# Altium integrated library Microchip I2C Serial EEPROM.IntLib: 1069 symbols (part 15 of 28)
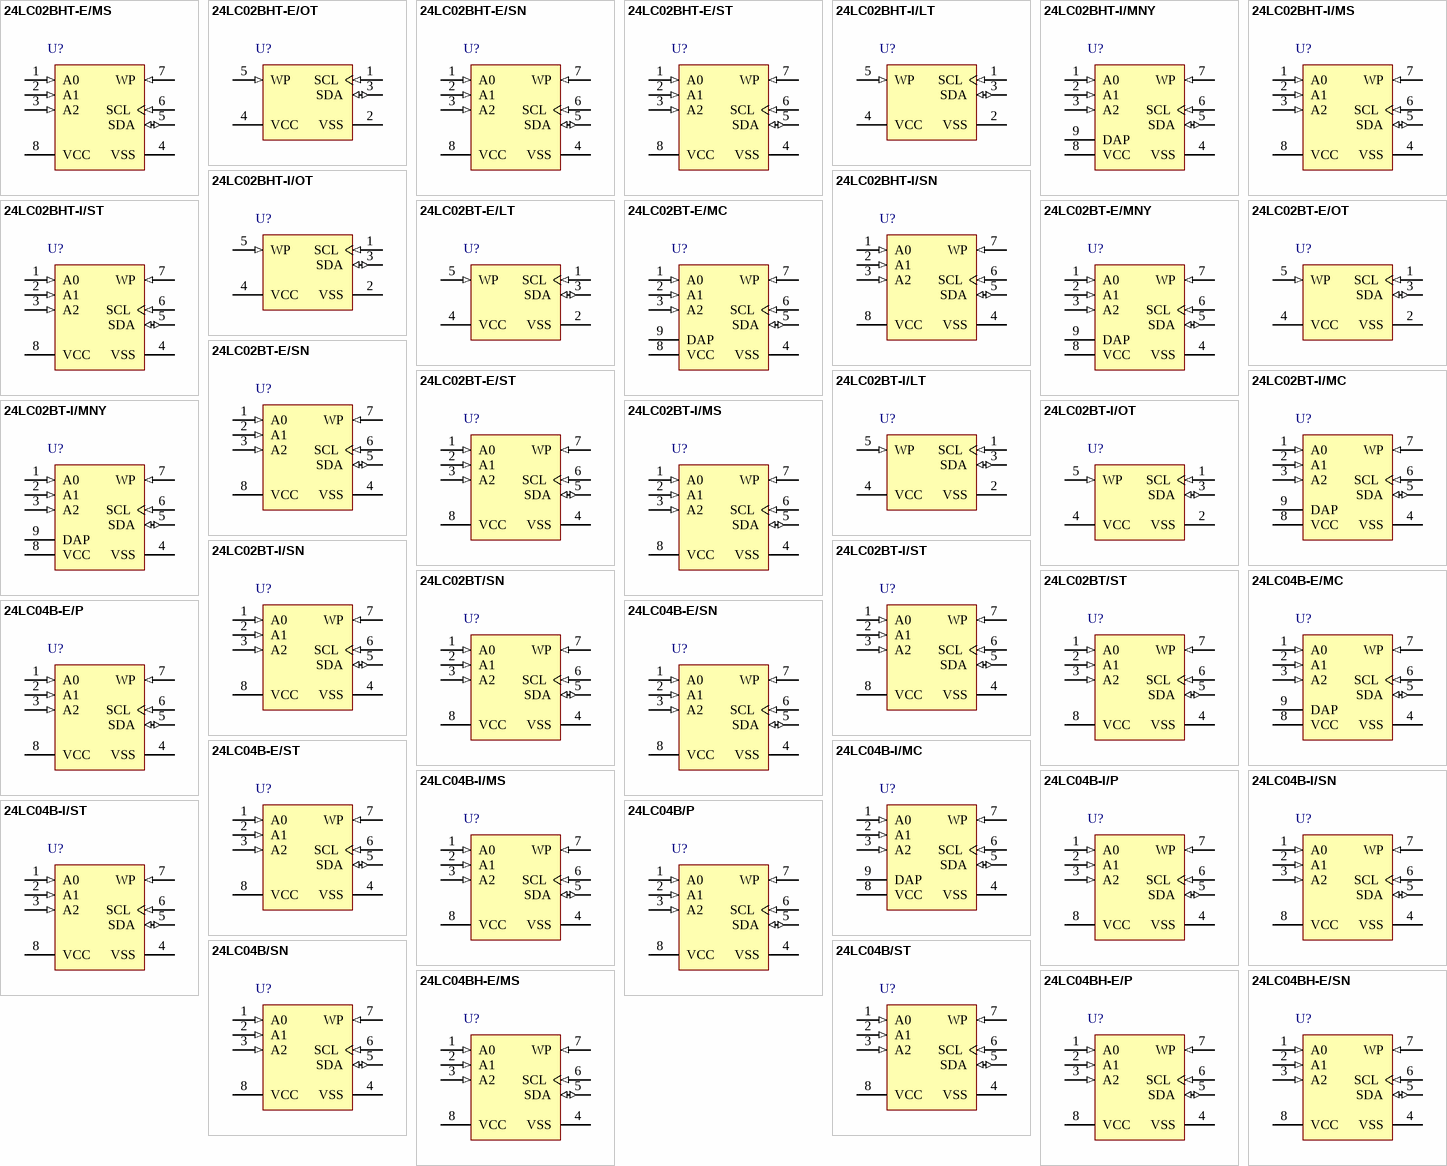
[diagram p40: symbols 24LC02BHT-E/MS to 24LC04BH-E/SN]

## 24LC02BT-I/MC
designator U?
2Kbit, 400kHz, 2.5V, I2C Serial EEPROM, 8-Pin DFN, Industrial Temperature, Tape and Reel; Manufacturer: Microchip; PartNumber: 24LC02BT-I/MC; DatasheetVersion: revJ, Feb-2009; PackageVersion: revBB, Aug-2009; PackageReference: DFN-MC8; PackageDescription: 8-Lead Plastic Dual Flat, No Lead Package (MC) - 2x3x0.9mm Body [DFN]; Supplier 1: Digi-Key; Supplier Part Number 1: 24LC02BT-I/MCTR-ND; Supplier 2: Digi-Key; Supplier Part Number 2: 24LC02BT-I/MCCT-ND; Supplier 3: Digi-Key; Supplier Part Number 3: 24LC02BT-I/MCDKR-ND; Supplier 4: Farnell; Supplier Part Number 4: 1815997; Supplier 5: Newark; Supplier Part Number 5: 72J3393; Supplier 6: Mouser; Supplier Part Number 6: 579-24LC02BT-I/MC; Mounting Technology: Surface Mount; ComponentLink1Description: Manufacturer URL; ComponentLink1URL: http://www.microchip.com/; ComponentLink2Description: Datasheet; ComponentLink2URL: http://ww1.microchip.com/downloads/en/DeviceDoc/21709J.pdf; ComponentLink3Description: Package Specification; ComponentLink3URL: http://www.microchip.com/stellent/groups/techpub_sg/documents/packagingspec/en012702.pdf
footprint DFN-MC8 (SON, 8-Leads, Body 2x3mm, Pitch 0.5mm, Microchip Recommended)
pins: 1 A0 (in), 2 A1 (in), 3 A2 (in), 4 VSS (power), 5 SDA (io), 6 SCL (in), 7 WP (in), 8 VCC (power), 9 DAP (power)

## 24LC02BT-I/MNY
designator U?
2Kbit, 400kHz, 2.5V, I2C Serial EEPROM, 8-Pin TDFN (NiPdAu finish), Industrial Temperature, Tape and Reel; Manufacturer: Microchip; PartNumber: 24LC02BT-I/MNY; DatasheetVersion: revJ, Feb-2009; PackageVersion: revBB, Aug-2009; PackageReference: TDFN-MN8; PackageDescription: 8-Lead Plastic Dual Flat, No Lead Package (MN) - 2x3x0.75mm Body [TDFN]; Supplier 1: Digi-Key; Supplier Part Number 1: 24LC02BT-I/MNYTR-ND; Supplier 2: Digi-Key; Supplier Part Number 2: 24LC02BT-I/MNYCT-ND; Supplier 3: Digi-Key; Supplier Part Number 3: 24LC02BT-I/MNYDKR-ND; Supplier 4: Mouser; Supplier Part Number 4: 579-24LC02BT-I/MNY; Mounting Technology: Surface Mount; ComponentLink1Description: Manufacturer URL; ComponentLink1URL: http://www.microchip.com/; ComponentLink2Description: Datasheet; ComponentLink2URL: http://ww1.microchip.com/downloads/en/DeviceDoc/21709J.pdf; ComponentLink3Description: Package Specification; ComponentLink3URL: http://www.microchip.com/stellent/groups/techpub_sg/documents/packagingspec/en012702.pdf
footprint TDFN-MN8 (SON, 8-Leads, Body 2x3mm, Pitch 0.5mm, Microchip Recommended)
pins: 1 A0 (in), 2 A1 (in), 3 A2 (in), 4 VSS (power), 5 SDA (io), 6 SCL (in), 7 WP (in), 8 VCC (power), 9 DAP (power)

## 24LC02BT-I/MS
designator U?
2Kbit, 400kHz, 2.5V, I2C Serial EEPROM, 8-Pin MSOP, Industrial Temperature, Tape and Reel; Manufacturer: Microchip; PartNumber: 24LC02BT-I/MS; DatasheetVersion: revJ, Feb-2009; PackageVersion: revBB, Aug-2009; PackageReference: MSOP-MS8; PackageDescription: 8-Lead Plastic Micro Small Outline Package (MS) [MSOP]; Supplier 1: Digi-Key; Supplier Part Number 1: 24LC02BT-I/MS-ND; Supplier 2: Mouser; Supplier Part Number 2: 579-24LC02BT-I/MS; Mounting Technology: Surface Mount; ComponentLink1Description: Manufacturer URL; ComponentLink1URL: http://www.microchip.com/; ComponentLink2Description: Datasheet; ComponentLink2URL: http://ww1.microchip.com/downloads/en/DeviceDoc/21709J.pdf; ComponentLink3Description: Package Specification; ComponentLink3URL: http://www.microchip.com/stellent/groups/techpub_sg/documents/packagingspec/en012702.pdf
footprint MSOP-MS8_N (TSOP, 8-Leads, Body 3x3mm, Pitch 0.65mm, IPC Medium Density)
footprint MSOP-MS8_L (TSOP, 8-Leads, Body 3x3mm, Pitch 0.65mm, IPC High Density)
footprint MSOP-MS8_M (TSOP, 8-Leads, Body 3x3mm, Pitch 0.65mm, IPC Low Density)
pins: 1 A0 (in), 2 A1 (in), 3 A2 (in), 4 VSS (power), 5 SDA (io), 6 SCL (in), 7 WP (in), 8 VCC (power)

## 24LC02BT-I/OT
designator U?
2Kbit, 400kHz, 2.5V, I2C Serial EEPROM, 5-Pin SOT-23, Industrial Temperature, Tape and Reel; Manufacturer: Microchip; PartNumber: 24LC02BT-I/OT; DatasheetVersion: revJ, Feb-2009; PackageVersion: revBB, Aug-2009; PackageReference: SOT-23-OT5; PackageDescription: 5-Lead Plastic Small Outline Transistor (OT) [SOT-23]; Supplier 1: Digi-Key; Supplier Part Number 1: 24LC02BT-I/OTTR-ND; Supplier 2: Digi-Key; Supplier Part Number 2: 24LC02BT-I/OTCT-ND; Supplier 3: Digi-Key; Supplier Part Number 3: 24LC02BT-I/OTDKR-ND; Supplier 4: Farnell; Supplier Part Number 4: 9757910RL; Supplier 5: Farnell; Supplier Part Number 5: 9757910; Supplier 6: Newark; Supplier Part Number 6: 89C9800; Supplier 7: Mouser; Supplier Part Number 7: 579-24LC02BT-I/OT; Mounting Technology: Surface Mount; Code_IPC: SOT23-5; ComponentLink1Description: Manufacturer URL; ComponentLink1URL: http://www.microchip.com/; ComponentLink2Description: Datasheet; ComponentLink2URL: http://ww1.microchip.com/downloads/en/DeviceDoc/21709J.pdf; ComponentLink3Description: Package Specification; ComponentLink3URL: http://www.microchip.com/stellent/groups/techpub_sg/documents/packagingspec/en012702.pdf
footprint SOT-23-OT5_N (SOT23, 5-Leads, Body 2.9x1.6mm, Pitch 0.95mm, Lead Span 2.7mm, IPC Medium Density)
footprint SOT-23-OT5_L (SOT23, 5-Leads, Body 2.9x1.6mm, Pitch 0.95mm, Lead Span 2.7mm, IPC High Density)
footprint SOT-23-OT5_M (SOT23, 5-Leads, Body 2.9x1.6mm, Pitch 0.95mm, Lead Span 2.7mm, IPC Low Density)
pins: 1 SCL (in), 2 VSS (power), 3 SDA (io), 4 VCC (power), 5 WP (in)

## 24LC02BT-I/SN
designator U?
2Kbit, 400kHz, 2.5V, I2C Serial EEPROM, 8-Pin SOIC 150mil, Industrial Temperature, Tape and Reel; Manufacturer: Microchip; PartNumber: 24LC02BT-I/SN; DatasheetVersion: revJ, Feb-2009; PackageVersion: revBB, Aug-2009; PackageReference: SOIC-SN8; PackageDescription: 8-Lead Plastic Small Outline (SN) - Narrow, 3.90mm Body [SOIC]; Supplier 1: Digi-Key; Supplier Part Number 1: 24LC02BT-I/SN-ND; Supplier 2: Newark; Supplier Part Number 2: 75M3687; Supplier 3: Newark; Supplier Part Number 3: 92C7084; Supplier 4: Mouser; Supplier Part Number 4: 579-24LC02BT-I/SN; Mounting Technology: Surface Mount; Code_JEDEC: MS-012; Code_IPC: SOIC127P600-8; ComponentLink1Description: Manufacturer URL; ComponentLink1URL: http://www.microchip.com/; ComponentLink2Description: Datasheet; ComponentLink2URL: http://ww1.microchip.com/downloads/en/DeviceDoc/21709J.pdf; ComponentLink3Description: Package Specification; ComponentLink3URL: http://www.microchip.com/stellent/groups/techpub_sg/documents/packagingspec/en012702.pdf
footprint SOIC-SN8_N (SOIC, 8-Leads, Body 4.9x3.8mm, Pitch 1.27mm, IPC Medium Density)
footprint SOIC-SN8_L (SOIC, 8-Leads, Body 4.9x3.8mm, Pitch 1.27mm, IPC High Density)
footprint SOIC-SN8_M (SOIC, 8-Leads, Body 4.9x3.8mm, Pitch 1.27mm, IPC Low Density)
pins: 1 A0 (in), 2 A1 (in), 3 A2 (in), 4 VSS (power), 5 SDA (io), 6 SCL (in), 7 WP (in), 8 VCC (power)

## 24LC02BT-I/ST
designator U?
2Kbit, 400kHz, 2.5V, I2C Serial EEPROM, 8-Pin TSSOP, Industrial Temperature, Tape and Reel; Manufacturer: Microchip; PartNumber: 24LC02BT-I/ST; DatasheetVersion: revJ, Feb-2009; PackageVersion: revBB, Aug-2009; PackageReference: TSSOP-ST8; PackageDescription: 8-Lead Plastic Thin Shrink Small Outline (ST) - 4.4mm Body [TSSOP]; Supplier 1: Digi-Key; Supplier Part Number 1: 24LC02BT-I/ST-ND; Supplier 2: Mouser; Supplier Part Number 2: 579-24LC02BT-I/ST; Mounting Technology: Surface Mount; Code_JEDEC: MO-153; ComponentLink1Description: Manufacturer URL; ComponentLink1URL: http://www.microchip.com/; ComponentLink2Description: Datasheet; ComponentLink2URL: http://ww1.microchip.com/downloads/en/DeviceDoc/21709J.pdf; ComponentLink3Description: Package Specification; ComponentLink3URL: http://www.microchip.com/stellent/groups/techpub_sg/documents/packagingspec/en012702.pdf
footprint TSSOP-ST8_N (TSOP, 8-Leads, Body 3x4.4mm, Pitch 0.65mm, IPC Medium Density)
footprint TSSOP-ST8_L (TSOP, 8-Leads, Body 3x4.4mm, Pitch 0.65mm, IPC High Density)
footprint TSSOP-ST8_M (TSOP, 8-Leads, Body 3x4.4mm, Pitch 0.65mm, IPC Low Density)
pins: 1 A0 (in), 2 A1 (in), 3 A2 (in), 4 VSS (power), 5 SDA (io), 6 SCL (in), 7 WP (in), 8 VCC (power)

## 24LC02BT/SN
designator U?
2Kbit, 400kHz, 2.5V, I2C Serial EEPROM, 8-Pin SOIC 150mil, Commercial Temperature, Tape and Reel; Manufacturer: Microchip; PartNumber: 24LC02BT/SN; DatasheetVersion: revJ, Feb-2009; PackageVersion: revBB, Aug-2009; PackageReference: SOIC-SN8; PackageDescription: 8-Lead Plastic Small Outline (SN) - Narrow, 3.90mm Body [SOIC]; Supplier 1: Digi-Key; Supplier Part Number 1: 24LC02BT/SN-ND; Supplier 2: Newark; Supplier Part Number 2: 12C1999; Supplier 3: Mouser; Supplier Part Number 3: 579-24LC02BT/SN; Mounting Technology: Surface Mount; Code_JEDEC: MS-012; Code_IPC: SOIC127P600-8; ComponentLink1Description: Manufacturer URL; ComponentLink1URL: http://www.microchip.com/; ComponentLink2Description: Datasheet; ComponentLink2URL: http://ww1.microchip.com/downloads/en/DeviceDoc/21709J.pdf; ComponentLink3Description: Package Specification; ComponentLink3URL: http://www.microchip.com/stellent/groups/techpub_sg/documents/packagingspec/en012702.pdf
footprint SOIC-SN8_N (SOIC, 8-Leads, Body 4.9x3.8mm, Pitch 1.27mm, IPC Medium Density)
footprint SOIC-SN8_L (SOIC, 8-Leads, Body 4.9x3.8mm, Pitch 1.27mm, IPC High Density)
footprint SOIC-SN8_M (SOIC, 8-Leads, Body 4.9x3.8mm, Pitch 1.27mm, IPC Low Density)
pins: 1 A0 (in), 2 A1 (in), 3 A2 (in), 4 VSS (power), 5 SDA (io), 6 SCL (in), 7 WP (in), 8 VCC (power)

## 24LC02BT/ST
designator U?
2Kbit, 400kHz, 2.5V, I2C Serial EEPROM, 8-Pin TSSOP, Commercial Temperature, Tape and Reel; Manufacturer: Microchip; PartNumber: 24LC02BT/ST; DatasheetVersion: revJ, Feb-2009; PackageVersion: revBB, Aug-2009; PackageReference: TSSOP-ST8; PackageDescription: 8-Lead Plastic Thin Shrink Small Outline (ST) - 4.4mm Body [TSSOP]; Supplier 1: Digi-Key; Supplier Part Number 1: 24LC02BT/ST-ND; Supplier 2: Mouser; Supplier Part Number 2: 579-24LC02BT/ST; Mounting Technology: Surface Mount; Code_JEDEC: MO-153; ComponentLink1Description: Manufacturer URL; ComponentLink1URL: http://www.microchip.com/; ComponentLink2Description: Datasheet; ComponentLink2URL: http://ww1.microchip.com/downloads/en/DeviceDoc/21709J.pdf; ComponentLink3Description: Package Specification; ComponentLink3URL: http://www.microchip.com/stellent/groups/techpub_sg/documents/packagingspec/en012702.pdf
footprint TSSOP-ST8_N (TSOP, 8-Leads, Body 3x4.4mm, Pitch 0.65mm, IPC Medium Density)
footprint TSSOP-ST8_L (TSOP, 8-Leads, Body 3x4.4mm, Pitch 0.65mm, IPC High Density)
footprint TSSOP-ST8_M (TSOP, 8-Leads, Body 3x4.4mm, Pitch 0.65mm, IPC Low Density)
pins: 1 A0 (in), 2 A1 (in), 3 A2 (in), 4 VSS (power), 5 SDA (io), 6 SCL (in), 7 WP (in), 8 VCC (power)

## 24LC04B-E/MC
designator U?
4Kbit, 400kHz, 2.5V, I2C Serial EEPROM, 8-Pin DFN, Extended Temperature; Manufacturer: Microchip; PartNumber: 24LC04B-E/MC; DatasheetVersion: revK, Mar-2009; PackageVersion: revBB, Aug-2009; PackageReference: DFN-MC8; PackageDescription: 8-Lead Plastic Dual Flat, No Lead Package (MC) - 2x3x0.9mm Body [DFN]; Mounting Technology: Surface Mount; ComponentLink1Description: Manufacturer URL; ComponentLink1URL: http://www.microchip.com/; ComponentLink2Description: Datasheet; ComponentLink2URL: http://ww1.microchip.com/downloads/en/DeviceDoc/21708K.pdf; ComponentLink3Description: Package Specification; ComponentLink3URL: http://www.microchip.com/stellent/groups/techpub_sg/documents/packagingspec/en012702.pdf
footprint DFN-MC8 (SON, 8-Leads, Body 2x3mm, Pitch 0.5mm, Microchip Recommended)
pins: 1 A0 (in), 2 A1 (in), 3 A2 (in), 4 VSS (power), 5 SDA (io), 6 SCL (in), 7 WP (in), 8 VCC (power), 9 DAP (power)

## 24LC04B-E/P
designator U?
4Kbit, 400kHz, 2.5V, I2C Serial EEPROM, 8-Pin PDIP, Extended Temperature; Manufacturer: Microchip; PartNumber: 24LC04B-E/P; DatasheetVersion: revK, Mar-2009; PackageVersion: revBB, Aug-2009; PackageReference: PDIP300-P8; PackageDescription: 8-Lead Plastic Dual In-Line (P) - 300 mil Body [PDIP]; Supplier 1: Digi-Key; Supplier Part Number 1: 24LC04B-E/P-ND; Supplier 2: Mouser; Supplier Part Number 2: 579-24LC04B-E/P; Mounting Technology: Through Hole; Code_JEDEC: MS-001; ComponentLink1Description: Manufacturer URL; ComponentLink1URL: http://www.microchip.com/; ComponentLink2Description: Datasheet; ComponentLink2URL: http://ww1.microchip.com/downloads/en/DeviceDoc/21708K.pdf; ComponentLink3Description: Package Specification; ComponentLink3URL: http://www.microchip.com/stellent/groups/techpub_sg/documents/packagingspec/en012702.pdf
footprint PDIP300-P8 (DIP, 8-Leads, Row Spacing 7.62mm, Pitch 2.54mm, Body 9.5x6.6mm)
pins: 1 A0 (in), 2 A1 (in), 3 A2 (in), 4 VSS (power), 5 SDA (io), 6 SCL (in), 7 WP (in), 8 VCC (power)

## 24LC04B-E/SN
designator U?
4Kbit, 400kHz, 2.5V, I2C Serial EEPROM, 8-Pin SOIC 150mil, Extended Temperature; Manufacturer: Microchip; PartNumber: 24LC04B-E/SN; DatasheetVersion: revK, Mar-2009; PackageVersion: revBB, Aug-2009; PackageReference: SOIC-SN8; PackageDescription: 8-Lead Plastic Small Outline (SN) - Narrow, 3.90mm Body [SOIC]; Supplier 1: Digi-Key; Supplier Part Number 1: 24LC04B-E/SN-ND; Supplier 2: Mouser; Supplier Part Number 2: 579-24LC04B-E/SN; Mounting Technology: Surface Mount; Code_JEDEC: MS-012; Code_IPC: SOIC127P600-8; ComponentLink1Description: Manufacturer URL; ComponentLink1URL: http://www.microchip.com/; ComponentLink2Description: Datasheet; ComponentLink2URL: http://ww1.microchip.com/downloads/en/DeviceDoc/21708K.pdf; ComponentLink3Description: Package Specification; ComponentLink3URL: http://www.microchip.com/stellent/groups/techpub_sg/documents/packagingspec/en012702.pdf
footprint SOIC-SN8_N (SOIC, 8-Leads, Body 4.9x3.8mm, Pitch 1.27mm, IPC Medium Density)
footprint SOIC-SN8_L (SOIC, 8-Leads, Body 4.9x3.8mm, Pitch 1.27mm, IPC High Density)
footprint SOIC-SN8_M (SOIC, 8-Leads, Body 4.9x3.8mm, Pitch 1.27mm, IPC Low Density)
pins: 1 A0 (in), 2 A1 (in), 3 A2 (in), 4 VSS (power), 5 SDA (io), 6 SCL (in), 7 WP (in), 8 VCC (power)

## 24LC04B-E/ST
designator U?
4Kbit, 400kHz, 2.5V, I2C Serial EEPROM, 8-Pin TSSOP, Extended Temperature; Manufacturer: Microchip; PartNumber: 24LC04B-E/ST; DatasheetVersion: revK, Mar-2009; PackageVersion: revBB, Aug-2009; PackageReference: TSSOP-ST8; PackageDescription: 8-Lead Plastic Thin Shrink Small Outline (ST) - 4.4mm Body [TSSOP]; Supplier 1: Digi-Key; Supplier Part Number 1: 24LC04B-E/ST-ND; Supplier 2: Mouser; Supplier Part Number 2: 579-24LC04B-E/ST; Mounting Technology: Surface Mount; Code_JEDEC: MO-153; ComponentLink1Description: Manufacturer URL; ComponentLink1URL: http://www.microchip.com/; ComponentLink2Description: Datasheet; ComponentLink2URL: http://ww1.microchip.com/downloads/en/DeviceDoc/21708K.pdf; ComponentLink3Description: Package Specification; ComponentLink3URL: http://www.microchip.com/stellent/groups/techpub_sg/documents/packagingspec/en012702.pdf
footprint TSSOP-ST8_N (TSOP, 8-Leads, Body 3x4.4mm, Pitch 0.65mm, IPC Medium Density)
footprint TSSOP-ST8_L (TSOP, 8-Leads, Body 3x4.4mm, Pitch 0.65mm, IPC High Density)
footprint TSSOP-ST8_M (TSOP, 8-Leads, Body 3x4.4mm, Pitch 0.65mm, IPC Low Density)
pins: 1 A0 (in), 2 A1 (in), 3 A2 (in), 4 VSS (power), 5 SDA (io), 6 SCL (in), 7 WP (in), 8 VCC (power)

## 24LC04B-I/MC
designator U?
4Kbit, 400kHz, 2.5V, I2C Serial EEPROM, 8-Pin DFN, Industrial Temperature; Manufacturer: Microchip; PartNumber: 24LC04B-I/MC; DatasheetVersion: revK, Mar-2009; PackageVersion: revBB, Aug-2009; PackageReference: DFN-MC8; PackageDescription: 8-Lead Plastic Dual Flat, No Lead Package (MC) - 2x3x0.9mm Body [DFN]; Supplier 1: Digi-Key; Supplier Part Number 1: 24LC04B-I/MC-ND; Supplier 2: Mouser; Supplier Part Number 2: 579-24LC04B-I/MC; Mounting Technology: Surface Mount; ComponentLink1Description: Manufacturer URL; ComponentLink1URL: http://www.microchip.com/; ComponentLink2Description: Datasheet; ComponentLink2URL: http://ww1.microchip.com/downloads/en/DeviceDoc/21708K.pdf; ComponentLink3Description: Package Specification; ComponentLink3URL: http://www.microchip.com/stellent/groups/techpub_sg/documents/packagingspec/en012702.pdf
footprint DFN-MC8 (SON, 8-Leads, Body 2x3mm, Pitch 0.5mm, Microchip Recommended)
pins: 1 A0 (in), 2 A1 (in), 3 A2 (in), 4 VSS (power), 5 SDA (io), 6 SCL (in), 7 WP (in), 8 VCC (power), 9 DAP (power)

## 24LC04B-I/MS
designator U?
4Kbit, 400kHz, 2.5V, I2C Serial EEPROM, 8-Pin MSOP, Industrial Temperature; Manufacturer: Microchip; PartNumber: 24LC04B-I/MS; DatasheetVersion: revK, Mar-2009; PackageVersion: revBB, Aug-2009; PackageReference: MSOP-MS8; PackageDescription: 8-Lead Plastic Micro Small Outline Package (MS) [MSOP]; Supplier 1: Digi-Key; Supplier Part Number 1: 24LC04B-I/MS-ND; Supplier 2: Farnell; Supplier Part Number 2: 1331320; Supplier 3: Newark; Supplier Part Number 3: 96K4070; Supplier 4: Mouser; Supplier Part Number 4: 579-24LC04B-I/MS; Mounting Technology: Surface Mount; ComponentLink1Description: Manufacturer URL; ComponentLink1URL: http://www.microchip.com/; ComponentLink2Description: Datasheet; ComponentLink2URL: http://ww1.microchip.com/downloads/en/DeviceDoc/21708K.pdf; ComponentLink3Description: Package Specification; ComponentLink3URL: http://www.microchip.com/stellent/groups/techpub_sg/documents/packagingspec/en012702.pdf
footprint MSOP-MS8_N (TSOP, 8-Leads, Body 3x3mm, Pitch 0.65mm, IPC Medium Density)
footprint MSOP-MS8_L (TSOP, 8-Leads, Body 3x3mm, Pitch 0.65mm, IPC High Density)
footprint MSOP-MS8_M (TSOP, 8-Leads, Body 3x3mm, Pitch 0.65mm, IPC Low Density)
pins: 1 A0 (in), 2 A1 (in), 3 A2 (in), 4 VSS (power), 5 SDA (io), 6 SCL (in), 7 WP (in), 8 VCC (power)

## 24LC04B-I/P
designator U?
4Kbit, 400kHz, 2.5V, I2C Serial EEPROM, 8-Pin PDIP, Industrial Temperature; Manufacturer: Microchip; PartNumber: 24LC04B-I/P; DatasheetVersion: revK, Mar-2009; PackageVersion: revBB, Aug-2009; PackageReference: PDIP300-P8; PackageDescription: 8-Lead Plastic Dual In-Line (P) - 300 mil Body [PDIP]; Supplier 1: Digi-Key; Supplier Part Number 1: 24LC04B-I/P-ND; Supplier 2: Farnell; Supplier Part Number 2: 1196811; Supplier 3: Newark; Supplier Part Number 3: 62K0576; Supplier 4: Mouser; Supplier Part Number 4: 579-24LC04B-I/P; Mounting Technology: Through Hole; Code_JEDEC: MS-001; ComponentLink1Description: Manufacturer URL; ComponentLink1URL: http://www.microchip.com/; ComponentLink2Description: Datasheet; ComponentLink2URL: http://ww1.microchip.com/downloads/en/DeviceDoc/21708K.pdf; ComponentLink3Description: Package Specification; ComponentLink3URL: http://www.microchip.com/stellent/groups/techpub_sg/documents/packagingspec/en012702.pdf
footprint PDIP300-P8 (DIP, 8-Leads, Row Spacing 7.62mm, Pitch 2.54mm, Body 9.5x6.6mm)
pins: 1 A0 (in), 2 A1 (in), 3 A2 (in), 4 VSS (power), 5 SDA (io), 6 SCL (in), 7 WP (in), 8 VCC (power)

## 24LC04B-I/SN
designator U?
4Kbit, 400kHz, 2.5V, I2C Serial EEPROM, 8-Pin SOIC 150mil, Industrial Temperature; Manufacturer: Microchip; PartNumber: 24LC04B-I/SN; DatasheetVersion: revK, Mar-2009; PackageVersion: revBB, Aug-2009; PackageReference: SOIC-SN8; PackageDescription: 8-Lead Plastic Small Outline (SN) - Narrow, 3.90mm Body [SOIC]; Supplier 1: Digi-Key; Supplier Part Number 1: 24LC04B-I/SN-ND; Supplier 2: Newark; Supplier Part Number 2: 65K1125; Supplier 3: Mouser; Supplier Part Number 3: 579-24LC04B-I/SN; Mounting Technology: Surface Mount; Code_JEDEC: MS-012; Code_IPC: SOIC127P600-8; ComponentLink1Description: Manufacturer URL; ComponentLink1URL: http://www.microchip.com/; ComponentLink2Description: Datasheet; ComponentLink2URL: http://ww1.microchip.com/downloads/en/DeviceDoc/21708K.pdf; ComponentLink3Description: Package Specification; ComponentLink3URL: http://www.microchip.com/stellent/groups/techpub_sg/documents/packagingspec/en012702.pdf
footprint SOIC-SN8_N (SOIC, 8-Leads, Body 4.9x3.8mm, Pitch 1.27mm, IPC Medium Density)
footprint SOIC-SN8_L (SOIC, 8-Leads, Body 4.9x3.8mm, Pitch 1.27mm, IPC High Density)
footprint SOIC-SN8_M (SOIC, 8-Leads, Body 4.9x3.8mm, Pitch 1.27mm, IPC Low Density)
pins: 1 A0 (in), 2 A1 (in), 3 A2 (in), 4 VSS (power), 5 SDA (io), 6 SCL (in), 7 WP (in), 8 VCC (power)

## 24LC04B-I/ST
designator U?
4Kbit, 400kHz, 2.5V, I2C Serial EEPROM, 8-Pin TSSOP, Industrial Temperature; Manufacturer: Microchip; PartNumber: 24LC04B-I/ST; DatasheetVersion: revK, Mar-2009; PackageVersion: revBB, Aug-2009; PackageReference: TSSOP-ST8; PackageDescription: 8-Lead Plastic Thin Shrink Small Outline (ST) - 4.4mm Body [TSSOP]; Supplier 1: Digi-Key; Supplier Part Number 1: 24LC04B-I/ST-ND; Supplier 2: Newark; Supplier Part Number 2: 65K1126; Supplier 3: Mouser; Supplier Part Number 3: 579-24LC04B-I/ST; Mounting Technology: Surface Mount; Code_JEDEC: MO-153; ComponentLink1Description: Manufacturer URL; ComponentLink1URL: http://www.microchip.com/; ComponentLink2Description: Datasheet; ComponentLink2URL: http://ww1.microchip.com/downloads/en/DeviceDoc/21708K.pdf; ComponentLink3Description: Package Specification; ComponentLink3URL: http://www.microchip.com/stellent/groups/techpub_sg/documents/packagingspec/en012702.pdf
footprint TSSOP-ST8_N (TSOP, 8-Leads, Body 3x4.4mm, Pitch 0.65mm, IPC Medium Density)
footprint TSSOP-ST8_L (TSOP, 8-Leads, Body 3x4.4mm, Pitch 0.65mm, IPC High Density)
footprint TSSOP-ST8_M (TSOP, 8-Leads, Body 3x4.4mm, Pitch 0.65mm, IPC Low Density)
pins: 1 A0 (in), 2 A1 (in), 3 A2 (in), 4 VSS (power), 5 SDA (io), 6 SCL (in), 7 WP (in), 8 VCC (power)

## 24LC04B/P
designator U?
4Kbit, 400kHz, 2.5V, I2C Serial EEPROM, 8-Pin PDIP, Commercial Temperature; Manufacturer: Microchip; PartNumber: 24LC04B/P; DatasheetVersion: revK, Mar-2009; PackageVersion: revBB, Aug-2009; PackageReference: PDIP300-P8; PackageDescription: 8-Lead Plastic Dual In-Line (P) - 300 mil Body [PDIP]; Supplier 1: Digi-Key; Supplier Part Number 1: 24LC04B/P-ND; Supplier 2: Farnell; Supplier Part Number 2: 1196848; Supplier 3: Newark; Supplier Part Number 3: 69K7668; Supplier 4: Mouser; Supplier Part Number 4: 579-24LC04BP; Mounting Technology: Through Hole; Code_JEDEC: MS-001; ComponentLink1Description: Manufacturer URL; ComponentLink1URL: http://www.microchip.com/; ComponentLink2Description: Datasheet; ComponentLink2URL: http://ww1.microchip.com/downloads/en/DeviceDoc/21708K.pdf; ComponentLink3Description: Package Specification; ComponentLink3URL: http://www.microchip.com/stellent/groups/techpub_sg/documents/packagingspec/en012702.pdf
footprint PDIP300-P8 (DIP, 8-Leads, Row Spacing 7.62mm, Pitch 2.54mm, Body 9.5x6.6mm)
pins: 1 A0 (in), 2 A1 (in), 3 A2 (in), 4 VSS (power), 5 SDA (io), 6 SCL (in), 7 WP (in), 8 VCC (power)

## 24LC04B/SN
designator U?
4Kbit, 400kHz, 2.5V, I2C Serial EEPROM, 8-Pin SOIC 150mil, Commercial Temperature; Manufacturer: Microchip; PartNumber: 24LC04B/SN; DatasheetVersion: revK, Mar-2009; PackageVersion: revBB, Aug-2009; PackageReference: SOIC-SN8; PackageDescription: 8-Lead Plastic Small Outline (SN) - Narrow, 3.90mm Body [SOIC]; Supplier 1: Digi-Key; Supplier Part Number 1: 24LC04B/SN-ND; Supplier 2: Farnell; Supplier Part Number 2: 1084244; Supplier 3: Newark; Supplier Part Number 3: 96K4071; Supplier 4: Mouser; Supplier Part Number 4: 579-24LC04BSN; Mounting Technology: Surface Mount; Code_JEDEC: MS-012; Code_IPC: SOIC127P600-8; ComponentLink1Description: Manufacturer URL; ComponentLink1URL: http://www.microchip.com/; ComponentLink2Description: Datasheet; ComponentLink2URL: http://ww1.microchip.com/downloads/en/DeviceDoc/21708K.pdf; ComponentLink3Description: Package Specification; ComponentLink3URL: http://www.microchip.com/stellent/groups/techpub_sg/documents/packagingspec/en012702.pdf
footprint SOIC-SN8_N (SOIC, 8-Leads, Body 4.9x3.8mm, Pitch 1.27mm, IPC Medium Density)
footprint SOIC-SN8_L (SOIC, 8-Leads, Body 4.9x3.8mm, Pitch 1.27mm, IPC High Density)
footprint SOIC-SN8_M (SOIC, 8-Leads, Body 4.9x3.8mm, Pitch 1.27mm, IPC Low Density)
pins: 1 A0 (in), 2 A1 (in), 3 A2 (in), 4 VSS (power), 5 SDA (io), 6 SCL (in), 7 WP (in), 8 VCC (power)

## 24LC04B/ST
designator U?
4Kbit, 400kHz, 2.5V, I2C Serial EEPROM, 8-Pin TSSOP, Commercial Temperature; Manufacturer: Microchip; PartNumber: 24LC04B/ST; DatasheetVersion: revK, Mar-2009; PackageVersion: revBB, Aug-2009; PackageReference: TSSOP-ST8; PackageDescription: 8-Lead Plastic Thin Shrink Small Outline (ST) - 4.4mm Body [TSSOP]; Supplier 1: Digi-Key; Supplier Part Number 1: 24LC04B/ST-ND; Supplier 2: Newark; Supplier Part Number 2: 92C7113; Supplier 3: Mouser; Supplier Part Number 3: 579-24LC04B/ST; Mounting Technology: Surface Mount; Code_JEDEC: MO-153; ComponentLink1Description: Manufacturer URL; ComponentLink1URL: http://www.microchip.com/; ComponentLink2Description: Datasheet; ComponentLink2URL: http://ww1.microchip.com/downloads/en/DeviceDoc/21708K.pdf; ComponentLink3Description: Package Specification; ComponentLink3URL: http://www.microchip.com/stellent/groups/techpub_sg/documents/packagingspec/en012702.pdf
footprint TSSOP-ST8_N (TSOP, 8-Leads, Body 3x4.4mm, Pitch 0.65mm, IPC Medium Density)
footprint TSSOP-ST8_L (TSOP, 8-Leads, Body 3x4.4mm, Pitch 0.65mm, IPC High Density)
footprint TSSOP-ST8_M (TSOP, 8-Leads, Body 3x4.4mm, Pitch 0.65mm, IPC Low Density)
pins: 1 A0 (in), 2 A1 (in), 3 A2 (in), 4 VSS (power), 5 SDA (io), 6 SCL (in), 7 WP (in), 8 VCC (power)

## 24LC04BH-E/MS
designator U?
4Kbit, 400kHz, 2.5V, I2C Serial EEPROM, 8-Pin MSOP, Extended Temperature; Manufacturer: Microchip; PartNumber: 24LC04BH-E/MS; DatasheetVersion: revA, Nov-2008; PackageVersion: revBB, Aug-2009; PackageReference: MSOP-MS8; PackageDescription: 8-Lead Plastic Micro Small Outline Package (MS) [MSOP]; Supplier 1: Digi-Key; Supplier Part Number 1: 24LC04BH-E/MS-ND; Supplier 2: Mouser; Supplier Part Number 2: 579-24LC04BH-E/MS; Mounting Technology: Surface Mount; ComponentLink1Description: Manufacturer URL; ComponentLink1URL: http://www.microchip.com/; ComponentLink2Description: Datasheet; ComponentLink2URL: http://ww1.microchip.com/downloads/en/DeviceDoc/22119A.pdf; ComponentLink3Description: Package Specification; ComponentLink3URL: http://www.microchip.com/stellent/groups/techpub_sg/documents/packagingspec/en012702.pdf
footprint MSOP-MS8_N (TSOP, 8-Leads, Body 3x3mm, Pitch 0.65mm, IPC Medium Density)
footprint MSOP-MS8_L (TSOP, 8-Leads, Body 3x3mm, Pitch 0.65mm, IPC High Density)
footprint MSOP-MS8_M (TSOP, 8-Leads, Body 3x3mm, Pitch 0.65mm, IPC Low Density)
pins: 1 A0 (in), 2 A1 (in), 3 A2 (in), 4 VSS (power), 5 SDA (io), 6 SCL (in), 7 WP (in), 8 VCC (power)

## 24LC04BH-E/P
designator U?
4Kbit, 400kHz, 2.5V, I2C Serial EEPROM, 8-Pin PDIP, Extended Temperature; Manufacturer: Microchip; PartNumber: 24LC04BH-E/P; DatasheetVersion: revA, Nov-2008; PackageVersion: revBB, Aug-2009; PackageReference: PDIP300-P8; PackageDescription: 8-Lead Plastic Dual In-Line (P) - 300 mil Body [PDIP]; Supplier 1: Digi-Key; Supplier Part Number 1: 24LC04BH-E/P-ND; Supplier 2: Mouser; Supplier Part Number 2: 579-24LC04BH-E/P; Mounting Technology: Through Hole; Code_JEDEC: MS-001; ComponentLink1Description: Manufacturer URL; ComponentLink1URL: http://www.microchip.com/; ComponentLink2Description: Datasheet; ComponentLink2URL: http://ww1.microchip.com/downloads/en/DeviceDoc/22119A.pdf; ComponentLink3Description: Package Specification; ComponentLink3URL: http://www.microchip.com/stellent/groups/techpub_sg/documents/packagingspec/en012702.pdf
footprint PDIP300-P8 (DIP, 8-Leads, Row Spacing 7.62mm, Pitch 2.54mm, Body 9.5x6.6mm)
pins: 1 A0 (in), 2 A1 (in), 3 A2 (in), 4 VSS (power), 5 SDA (io), 6 SCL (in), 7 WP (in), 8 VCC (power)

## 24LC04BH-E/SN
designator U?
4Kbit, 400kHz, 2.5V, I2C Serial EEPROM, 8-Pin SOIC 150mil, Extended Temperature; Manufacturer: Microchip; PartNumber: 24LC04BH-E/SN; DatasheetVersion: revA, Nov-2008; PackageVersion: revBB, Aug-2009; PackageReference: SOIC-SN8; PackageDescription: 8-Lead Plastic Small Outline (SN) - Narrow, 3.90mm Body [SOIC]; Supplier 1: Digi-Key; Supplier Part Number 1: 24LC04BH-E/SN-ND; Supplier 2: Mouser; Supplier Part Number 2: 579-24LC04BH-E/SN; Mounting Technology: Surface Mount; Code_JEDEC: MS-012; Code_IPC: SOIC127P600-8; ComponentLink1Description: Manufacturer URL; ComponentLink1URL: http://www.microchip.com/; ComponentLink2Description: Datasheet; ComponentLink2URL: http://ww1.microchip.com/downloads/en/DeviceDoc/22119A.pdf; ComponentLink3Description: Package Specification; ComponentLink3URL: http://www.microchip.com/stellent/groups/techpub_sg/documents/packagingspec/en012702.pdf
footprint SOIC-SN8_N (SOIC, 8-Leads, Body 4.9x3.8mm, Pitch 1.27mm, IPC Medium Density)
footprint SOIC-SN8_L (SOIC, 8-Leads, Body 4.9x3.8mm, Pitch 1.27mm, IPC High Density)
footprint SOIC-SN8_M (SOIC, 8-Leads, Body 4.9x3.8mm, Pitch 1.27mm, IPC Low Density)
pins: 1 A0 (in), 2 A1 (in), 3 A2 (in), 4 VSS (power), 5 SDA (io), 6 SCL (in), 7 WP (in), 8 VCC (power)

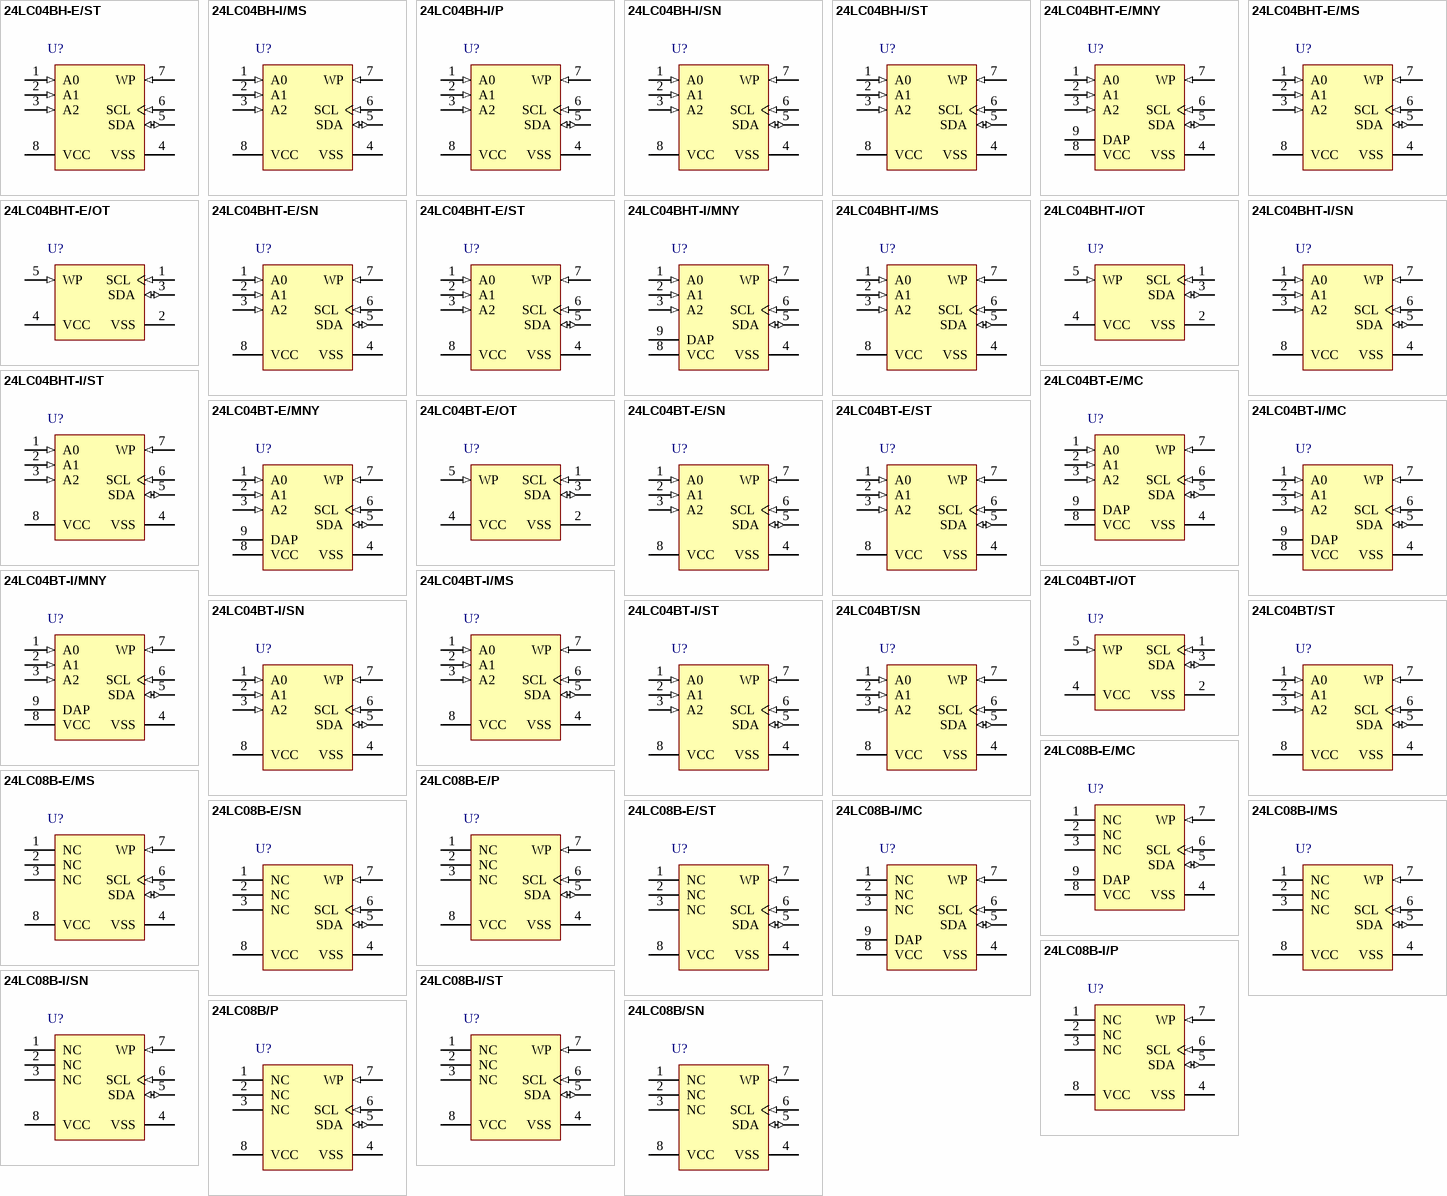
[diagram p14: symbols 24LC04BH-E/ST to 24LC08B/SN]

## 24LC04BH-E/ST
designator U?
4Kbit, 400kHz, 2.5V, I2C Serial EEPROM, 8-Pin TSSOP, Extended Temperature; Manufacturer: Microchip; PartNumber: 24LC04BH-E/ST; DatasheetVersion: revA, Nov-2008; PackageVersion: revBB, Aug-2009; PackageReference: TSSOP-ST8; PackageDescription: 8-Lead Plastic Thin Shrink Small Outline (ST) - 4.4mm Body [TSSOP]; Supplier 1: Digi-Key; Supplier Part Number 1: 24LC04BH-E/ST-ND; Supplier 2: Mouser; Supplier Part Number 2: 579-24LC04BH-E/ST; Mounting Technology: Surface Mount; Code_JEDEC: MO-153; ComponentLink1Description: Manufacturer URL; ComponentLink1URL: http://www.microchip.com/; ComponentLink2Description: Datasheet; ComponentLink2URL: http://ww1.microchip.com/downloads/en/DeviceDoc/22119A.pdf; ComponentLink3Description: Package Specification; ComponentLink3URL: http://www.microchip.com/stellent/groups/techpub_sg/documents/packagingspec/en012702.pdf
footprint TSSOP-ST8_N (TSOP, 8-Leads, Body 3x4.4mm, Pitch 0.65mm, IPC Medium Density)
footprint TSSOP-ST8_L (TSOP, 8-Leads, Body 3x4.4mm, Pitch 0.65mm, IPC High Density)
footprint TSSOP-ST8_M (TSOP, 8-Leads, Body 3x4.4mm, Pitch 0.65mm, IPC Low Density)
pins: 1 A0 (in), 2 A1 (in), 3 A2 (in), 4 VSS (power), 5 SDA (io), 6 SCL (in), 7 WP (in), 8 VCC (power)

## 24LC04BH-I/MS
designator U?
4Kbit, 400kHz, 2.5V, I2C Serial EEPROM, 8-Pin MSOP, Industrial Temperature; Manufacturer: Microchip; PartNumber: 24LC04BH-I/MS; DatasheetVersion: revA, Nov-2008; PackageVersion: revBB, Aug-2009; PackageReference: MSOP-MS8; PackageDescription: 8-Lead Plastic Micro Small Outline Package (MS) [MSOP]; Supplier 1: Digi-Key; Supplier Part Number 1: 24LC04BH-I/MS-ND; Supplier 2: Mouser; Supplier Part Number 2: 579-24LC04BH-I/MS; Mounting Technology: Surface Mount; ComponentLink1Description: Manufacturer URL; ComponentLink1URL: http://www.microchip.com/; ComponentLink2Description: Datasheet; ComponentLink2URL: http://ww1.microchip.com/downloads/en/DeviceDoc/22119A.pdf; ComponentLink3Description: Package Specification; ComponentLink3URL: http://www.microchip.com/stellent/groups/techpub_sg/documents/packagingspec/en012702.pdf
footprint MSOP-MS8_N (TSOP, 8-Leads, Body 3x3mm, Pitch 0.65mm, IPC Medium Density)
footprint MSOP-MS8_L (TSOP, 8-Leads, Body 3x3mm, Pitch 0.65mm, IPC High Density)
footprint MSOP-MS8_M (TSOP, 8-Leads, Body 3x3mm, Pitch 0.65mm, IPC Low Density)
pins: 1 A0 (in), 2 A1 (in), 3 A2 (in), 4 VSS (power), 5 SDA (io), 6 SCL (in), 7 WP (in), 8 VCC (power)

## 24LC04BH-I/P
designator U?
4Kbit, 400kHz, 2.5V, I2C Serial EEPROM, 8-Pin PDIP, Industrial Temperature; Manufacturer: Microchip; PartNumber: 24LC04BH-I/P; DatasheetVersion: revA, Nov-2008; PackageVersion: revBB, Aug-2009; PackageReference: PDIP300-P8; PackageDescription: 8-Lead Plastic Dual In-Line (P) - 300 mil Body [PDIP]; Supplier 1: Digi-Key; Supplier Part Number 1: 24LC04BH-I/P-ND; Supplier 2: Mouser; Supplier Part Number 2: 579-24LC04BH-I/P; Mounting Technology: Through Hole; Code_JEDEC: MS-001; ComponentLink1Description: Manufacturer URL; ComponentLink1URL: http://www.microchip.com/; ComponentLink2Description: Datasheet; ComponentLink2URL: http://ww1.microchip.com/downloads/en/DeviceDoc/22119A.pdf; ComponentLink3Description: Package Specification; ComponentLink3URL: http://www.microchip.com/stellent/groups/techpub_sg/documents/packagingspec/en012702.pdf
footprint PDIP300-P8 (DIP, 8-Leads, Row Spacing 7.62mm, Pitch 2.54mm, Body 9.5x6.6mm)
pins: 1 A0 (in), 2 A1 (in), 3 A2 (in), 4 VSS (power), 5 SDA (io), 6 SCL (in), 7 WP (in), 8 VCC (power)

## 24LC04BH-I/SN
designator U?
4Kbit, 400kHz, 2.5V, I2C Serial EEPROM, 8-Pin SOIC 150mil, Industrial Temperature; Manufacturer: Microchip; PartNumber: 24LC04BH-I/SN; DatasheetVersion: revA, Nov-2008; PackageVersion: revBB, Aug-2009; PackageReference: SOIC-SN8; PackageDescription: 8-Lead Plastic Small Outline (SN) - Narrow, 3.90mm Body [SOIC]; Supplier 1: Digi-Key; Supplier Part Number 1: 24LC04BH-I/SN-ND; Supplier 2: Newark; Supplier Part Number 2: 77M3595; Supplier 3: Mouser; Supplier Part Number 3: 579-24LC04BH-I/SN; Mounting Technology: Surface Mount; Code_JEDEC: MS-012; Code_IPC: SOIC127P600-8; ComponentLink1Description: Manufacturer URL; ComponentLink1URL: http://www.microchip.com/; ComponentLink2Description: Datasheet; ComponentLink2URL: http://ww1.microchip.com/downloads/en/DeviceDoc/22119A.pdf; ComponentLink3Description: Package Specification; ComponentLink3URL: http://www.microchip.com/stellent/groups/techpub_sg/documents/packagingspec/en012702.pdf
footprint SOIC-SN8_N (SOIC, 8-Leads, Body 4.9x3.8mm, Pitch 1.27mm, IPC Medium Density)
footprint SOIC-SN8_L (SOIC, 8-Leads, Body 4.9x3.8mm, Pitch 1.27mm, IPC High Density)
footprint SOIC-SN8_M (SOIC, 8-Leads, Body 4.9x3.8mm, Pitch 1.27mm, IPC Low Density)
pins: 1 A0 (in), 2 A1 (in), 3 A2 (in), 4 VSS (power), 5 SDA (io), 6 SCL (in), 7 WP (in), 8 VCC (power)

## 24LC04BH-I/ST
designator U?
4Kbit, 400kHz, 2.5V, I2C Serial EEPROM, 8-Pin TSSOP, Industrial Temperature; Manufacturer: Microchip; PartNumber: 24LC04BH-I/ST; DatasheetVersion: revA, Nov-2008; PackageVersion: revBB, Aug-2009; PackageReference: TSSOP-ST8; PackageDescription: 8-Lead Plastic Thin Shrink Small Outline (ST) - 4.4mm Body [TSSOP]; Supplier 1: Digi-Key; Supplier Part Number 1: 24LC04BH-I/ST-ND; Supplier 2: Mouser; Supplier Part Number 2: 579-24LC04BH-I/ST; Mounting Technology: Surface Mount; Code_JEDEC: MO-153; ComponentLink1Description: Manufacturer URL; ComponentLink1URL: http://www.microchip.com/; ComponentLink2Description: Datasheet; ComponentLink2URL: http://ww1.microchip.com/downloads/en/DeviceDoc/22119A.pdf; ComponentLink3Description: Package Specification; ComponentLink3URL: http://www.microchip.com/stellent/groups/techpub_sg/documents/packagingspec/en012702.pdf
footprint TSSOP-ST8_N (TSOP, 8-Leads, Body 3x4.4mm, Pitch 0.65mm, IPC Medium Density)
footprint TSSOP-ST8_L (TSOP, 8-Leads, Body 3x4.4mm, Pitch 0.65mm, IPC High Density)
footprint TSSOP-ST8_M (TSOP, 8-Leads, Body 3x4.4mm, Pitch 0.65mm, IPC Low Density)
pins: 1 A0 (in), 2 A1 (in), 3 A2 (in), 4 VSS (power), 5 SDA (io), 6 SCL (in), 7 WP (in), 8 VCC (power)

## 24LC04BHT-E/MNY
designator U?
4Kbit, 400kHz, 2.5V, I2C Serial EEPROM, 8-Pin TDFN (NiPdAu finish), Extended Temperature, Tape and Reel; Manufacturer: Microchip; PartNumber: 24LC04BHT-E/MNY; DatasheetVersion: revA, Nov-2008; PackageVersion: revBB, Aug-2009; PackageReference: TDFN-MN8; PackageDescription: 8-Lead Plastic Dual Flat, No Lead Package (MN) - 2x3x0.75mm Body [TDFN]; Supplier 1: Digi-Key; Supplier Part Number 1: 24LC04BHT-E/MNY-ND; Supplier 2: Mouser; Supplier Part Number 2: 579-24LC04BHT-E/MNY; Mounting Technology: Surface Mount; ComponentLink1Description: Manufacturer URL; ComponentLink1URL: http://www.microchip.com/; ComponentLink2Description: Datasheet; ComponentLink2URL: http://ww1.microchip.com/downloads/en/DeviceDoc/22119A.pdf; ComponentLink3Description: Package Specification; ComponentLink3URL: http://www.microchip.com/stellent/groups/techpub_sg/documents/packagingspec/en012702.pdf
footprint TDFN-MN8 (SON, 8-Leads, Body 2x3mm, Pitch 0.5mm, Microchip Recommended)
pins: 1 A0 (in), 2 A1 (in), 3 A2 (in), 4 VSS (power), 5 SDA (io), 6 SCL (in), 7 WP (in), 8 VCC (power), 9 DAP (power)

## 24LC04BHT-E/MS
designator U?
4Kbit, 400kHz, 2.5V, I2C Serial EEPROM, 8-Pin MSOP, Extended Temperature, Tape and Reel; Manufacturer: Microchip; PartNumber: 24LC04BHT-E/MS; DatasheetVersion: revA, Nov-2008; PackageVersion: revBB, Aug-2009; PackageReference: MSOP-MS8; PackageDescription: 8-Lead Plastic Micro Small Outline Package (MS) [MSOP]; Supplier 1: Digi-Key; Supplier Part Number 1: 24LC04BHT-E/MS-ND; Supplier 2: Mouser; Supplier Part Number 2: 579-24LC04BHT-E/MS; Mounting Technology: Surface Mount; ComponentLink1Description: Manufacturer URL; ComponentLink1URL: http://www.microchip.com/; ComponentLink2Description: Datasheet; ComponentLink2URL: http://ww1.microchip.com/downloads/en/DeviceDoc/22119A.pdf; ComponentLink3Description: Package Specification; ComponentLink3URL: http://www.microchip.com/stellent/groups/techpub_sg/documents/packagingspec/en012702.pdf
footprint MSOP-MS8_N (TSOP, 8-Leads, Body 3x3mm, Pitch 0.65mm, IPC Medium Density)
footprint MSOP-MS8_L (TSOP, 8-Leads, Body 3x3mm, Pitch 0.65mm, IPC High Density)
footprint MSOP-MS8_M (TSOP, 8-Leads, Body 3x3mm, Pitch 0.65mm, IPC Low Density)
pins: 1 A0 (in), 2 A1 (in), 3 A2 (in), 4 VSS (power), 5 SDA (io), 6 SCL (in), 7 WP (in), 8 VCC (power)

## 24LC04BHT-E/OT
designator U?
4Kbit, 400kHz, 2.5V, I2C Serial EEPROM, 5-Pin SOT-23, Extended Temperature, Tape and Reel; Manufacturer: Microchip; PartNumber: 24LC04BHT-E/OT; DatasheetVersion: revA, Nov-2008; PackageVersion: revBB, Aug-2009; PackageReference: SOT-23-OT5; PackageDescription: 5-Lead Plastic Small Outline Transistor (OT) [SOT-23]; Supplier 1: Digi-Key; Supplier Part Number 1: 24LC04BHT-E/OT-ND; Supplier 2: Mouser; Supplier Part Number 2: 579-24LC04BHT-E/OT; Mounting Technology: Surface Mount; Code_IPC: SOT23-5; ComponentLink1Description: Manufacturer URL; ComponentLink1URL: http://www.microchip.com/; ComponentLink2Description: Datasheet; ComponentLink2URL: http://ww1.microchip.com/downloads/en/DeviceDoc/22119A.pdf; ComponentLink3Description: Package Specification; ComponentLink3URL: http://www.microchip.com/stellent/groups/techpub_sg/documents/packagingspec/en012702.pdf
footprint SOT-23-OT5_N (SOT23, 5-Leads, Body 2.9x1.6mm, Pitch 0.95mm, Lead Span 2.7mm, IPC Medium Density)
footprint SOT-23-OT5_L (SOT23, 5-Leads, Body 2.9x1.6mm, Pitch 0.95mm, Lead Span 2.7mm, IPC High Density)
footprint SOT-23-OT5_M (SOT23, 5-Leads, Body 2.9x1.6mm, Pitch 0.95mm, Lead Span 2.7mm, IPC Low Density)
pins: 1 SCL (in), 2 VSS (power), 3 SDA (io), 4 VCC (power), 5 WP (in)

## 24LC04BHT-E/SN
designator U?
4Kbit, 400kHz, 2.5V, I2C Serial EEPROM, 8-Pin SOIC 150mil, Extended Temperature, Tape and Reel; Manufacturer: Microchip; PartNumber: 24LC04BHT-E/SN; DatasheetVersion: revA, Nov-2008; PackageVersion: revBB, Aug-2009; PackageReference: SOIC-SN8; PackageDescription: 8-Lead Plastic Small Outline (SN) - Narrow, 3.90mm Body [SOIC]; Supplier 1: Digi-Key; Supplier Part Number 1: 24LC04BHT-E/SN-ND; Supplier 2: Mouser; Supplier Part Number 2: 579-24LC04BHT-E/SN; Mounting Technology: Surface Mount; Code_JEDEC: MS-012; Code_IPC: SOIC127P600-8; ComponentLink1Description: Manufacturer URL; ComponentLink1URL: http://www.microchip.com/; ComponentLink2Description: Datasheet; ComponentLink2URL: http://ww1.microchip.com/downloads/en/DeviceDoc/22119A.pdf; ComponentLink3Description: Package Specification; ComponentLink3URL: http://www.microchip.com/stellent/groups/techpub_sg/documents/packagingspec/en012702.pdf
footprint SOIC-SN8_N (SOIC, 8-Leads, Body 4.9x3.8mm, Pitch 1.27mm, IPC Medium Density)
footprint SOIC-SN8_L (SOIC, 8-Leads, Body 4.9x3.8mm, Pitch 1.27mm, IPC High Density)
footprint SOIC-SN8_M (SOIC, 8-Leads, Body 4.9x3.8mm, Pitch 1.27mm, IPC Low Density)
pins: 1 A0 (in), 2 A1 (in), 3 A2 (in), 4 VSS (power), 5 SDA (io), 6 SCL (in), 7 WP (in), 8 VCC (power)

## 24LC04BHT-E/ST
designator U?
4Kbit, 400kHz, 2.5V, I2C Serial EEPROM, 8-Pin TSSOP, Extended Temperature, Tape and Reel; Manufacturer: Microchip; PartNumber: 24LC04BHT-E/ST; DatasheetVersion: revA, Nov-2008; PackageVersion: revBB, Aug-2009; PackageReference: TSSOP-ST8; PackageDescription: 8-Lead Plastic Thin Shrink Small Outline (ST) - 4.4mm Body [TSSOP]; Supplier 1: Digi-Key; Supplier Part Number 1: 24LC04BHT-E/ST-ND; Supplier 2: Mouser; Supplier Part Number 2: 579-24LC04BHT-E/ST; Mounting Technology: Surface Mount; Code_JEDEC: MO-153; ComponentLink1Description: Manufacturer URL; ComponentLink1URL: http://www.microchip.com/; ComponentLink2Description: Datasheet; ComponentLink2URL: http://ww1.microchip.com/downloads/en/DeviceDoc/22119A.pdf; ComponentLink3Description: Package Specification; ComponentLink3URL: http://www.microchip.com/stellent/groups/techpub_sg/documents/packagingspec/en012702.pdf
footprint TSSOP-ST8_N (TSOP, 8-Leads, Body 3x4.4mm, Pitch 0.65mm, IPC Medium Density)
footprint TSSOP-ST8_L (TSOP, 8-Leads, Body 3x4.4mm, Pitch 0.65mm, IPC High Density)
footprint TSSOP-ST8_M (TSOP, 8-Leads, Body 3x4.4mm, Pitch 0.65mm, IPC Low Density)
pins: 1 A0 (in), 2 A1 (in), 3 A2 (in), 4 VSS (power), 5 SDA (io), 6 SCL (in), 7 WP (in), 8 VCC (power)

## 24LC04BHT-I/MNY
designator U?
4Kbit, 400kHz, 2.5V, I2C Serial EEPROM, 8-Pin TDFN (NiPdAu finish), Industrial Temperature, Tape and Reel; Manufacturer: Microchip; PartNumber: 24LC04BHT-I/MNY; DatasheetVersion: revA, Nov-2008; PackageVersion: revBB, Aug-2009; PackageReference: TDFN-MN8; PackageDescription: 8-Lead Plastic Dual Flat, No Lead Package (MN) - 2x3x0.75mm Body [TDFN]; Supplier 1: Digi-Key; Supplier Part Number 1: 24LC04BHT-I/MNYTR-ND; Supplier 2: Digi-Key; Supplier Part Number 2: 24LC04BHT-I/MNYCT-ND; Supplier 3: Digi-Key; Supplier Part Number 3: 24LC04BHT-I/MNYDKR-ND; Supplier 4: Mouser; Supplier Part Number 4: 579-24LC04BHT-I/MNY; Mounting Technology: Surface Mount; ComponentLink1Description: Manufacturer URL; ComponentLink1URL: http://www.microchip.com/; ComponentLink2Description: Datasheet; ComponentLink2URL: http://ww1.microchip.com/downloads/en/DeviceDoc/22119A.pdf; ComponentLink3Description: Package Specification; ComponentLink3URL: http://www.microchip.com/stellent/groups/techpub_sg/documents/packagingspec/en012702.pdf
footprint TDFN-MN8 (SON, 8-Leads, Body 2x3mm, Pitch 0.5mm, Microchip Recommended)
pins: 1 A0 (in), 2 A1 (in), 3 A2 (in), 4 VSS (power), 5 SDA (io), 6 SCL (in), 7 WP (in), 8 VCC (power), 9 DAP (power)

## 24LC04BHT-I/MS
designator U?
4Kbit, 400kHz, 2.5V, I2C Serial EEPROM, 8-Pin MSOP, Industrial Temperature, Tape and Reel; Manufacturer: Microchip; PartNumber: 24LC04BHT-I/MS; DatasheetVersion: revA, Nov-2008; PackageVersion: revBB, Aug-2009; PackageReference: MSOP-MS8; PackageDescription: 8-Lead Plastic Micro Small Outline Package (MS) [MSOP]; Supplier 1: Digi-Key; Supplier Part Number 1: 24LC04BHT-I/MS-ND; Supplier 2: Mouser; Supplier Part Number 2: 579-24LC04BHT-I/MS; Mounting Technology: Surface Mount; ComponentLink1Description: Manufacturer URL; ComponentLink1URL: http://www.microchip.com/; ComponentLink2Description: Datasheet; ComponentLink2URL: http://ww1.microchip.com/downloads/en/DeviceDoc/22119A.pdf; ComponentLink3Description: Package Specification; ComponentLink3URL: http://www.microchip.com/stellent/groups/techpub_sg/documents/packagingspec/en012702.pdf
footprint MSOP-MS8_N (TSOP, 8-Leads, Body 3x3mm, Pitch 0.65mm, IPC Medium Density)
footprint MSOP-MS8_L (TSOP, 8-Leads, Body 3x3mm, Pitch 0.65mm, IPC High Density)
footprint MSOP-MS8_M (TSOP, 8-Leads, Body 3x3mm, Pitch 0.65mm, IPC Low Density)
pins: 1 A0 (in), 2 A1 (in), 3 A2 (in), 4 VSS (power), 5 SDA (io), 6 SCL (in), 7 WP (in), 8 VCC (power)

## 24LC04BHT-I/OT
designator U?
4Kbit, 400kHz, 2.5V, I2C Serial EEPROM, 5-Pin SOT-23, Industrial Temperature, Tape and Reel; Manufacturer: Microchip; PartNumber: 24LC04BHT-I/OT; DatasheetVersion: revA, Nov-2008; PackageVersion: revBB, Aug-2009; PackageReference: SOT-23-OT5; PackageDescription: 5-Lead Plastic Small Outline Transistor (OT) [SOT-23]; Supplier 1: Digi-Key; Supplier Part Number 1: 24LC04BHT-I/OT-ND; Supplier 2: Mouser; Supplier Part Number 2: 579-24LC04BHT-I/OT; Mounting Technology: Surface Mount; Code_IPC: SOT23-5; ComponentLink1Description: Manufacturer URL; ComponentLink1URL: http://www.microchip.com/; ComponentLink2Description: Datasheet; ComponentLink2URL: http://ww1.microchip.com/downloads/en/DeviceDoc/22119A.pdf; ComponentLink3Description: Package Specification; ComponentLink3URL: http://www.microchip.com/stellent/groups/techpub_sg/documents/packagingspec/en012702.pdf
footprint SOT-23-OT5_N (SOT23, 5-Leads, Body 2.9x1.6mm, Pitch 0.95mm, Lead Span 2.7mm, IPC Medium Density)
footprint SOT-23-OT5_L (SOT23, 5-Leads, Body 2.9x1.6mm, Pitch 0.95mm, Lead Span 2.7mm, IPC High Density)
footprint SOT-23-OT5_M (SOT23, 5-Leads, Body 2.9x1.6mm, Pitch 0.95mm, Lead Span 2.7mm, IPC Low Density)
pins: 1 SCL (in), 2 VSS (power), 3 SDA (io), 4 VCC (power), 5 WP (in)

## 24LC04BHT-I/SN
designator U?
4Kbit, 400kHz, 2.5V, I2C Serial EEPROM, 8-Pin SOIC 150mil, Industrial Temperature, Tape and Reel; Manufacturer: Microchip; PartNumber: 24LC04BHT-I/SN; DatasheetVersion: revA, Nov-2008; PackageVersion: revBB, Aug-2009; PackageReference: SOIC-SN8; PackageDescription: 8-Lead Plastic Small Outline (SN) - Narrow, 3.90mm Body [SOIC]; Supplier 1: Digi-Key; Supplier Part Number 1: 24LC04BHT-I/SN-ND; Supplier 2: Mouser; Supplier Part Number 2: 579-24LC04BHT-I/SN; Mounting Technology: Surface Mount; Code_JEDEC: MS-012; Code_IPC: SOIC127P600-8; ComponentLink1Description: Manufacturer URL; ComponentLink1URL: http://www.microchip.com/; ComponentLink2Description: Datasheet; ComponentLink2URL: http://ww1.microchip.com/downloads/en/DeviceDoc/22119A.pdf; ComponentLink3Description: Package Specification; ComponentLink3URL: http://www.microchip.com/stellent/groups/techpub_sg/documents/packagingspec/en012702.pdf
footprint SOIC-SN8_N (SOIC, 8-Leads, Body 4.9x3.8mm, Pitch 1.27mm, IPC Medium Density)
footprint SOIC-SN8_L (SOIC, 8-Leads, Body 4.9x3.8mm, Pitch 1.27mm, IPC High Density)
footprint SOIC-SN8_M (SOIC, 8-Leads, Body 4.9x3.8mm, Pitch 1.27mm, IPC Low Density)
pins: 1 A0 (in), 2 A1 (in), 3 A2 (in), 4 VSS (power), 5 SDA (io), 6 SCL (in), 7 WP (in), 8 VCC (power)

## 24LC04BHT-I/ST
designator U?
4Kbit, 400kHz, 2.5V, I2C Serial EEPROM, 8-Pin TSSOP, Industrial Temperature, Tape and Reel; Manufacturer: Microchip; PartNumber: 24LC04BHT-I/ST; DatasheetVersion: revA, Nov-2008; PackageVersion: revBB, Aug-2009; PackageReference: TSSOP-ST8; PackageDescription: 8-Lead Plastic Thin Shrink Small Outline (ST) - 4.4mm Body [TSSOP]; Supplier 1: Digi-Key; Supplier Part Number 1: 24LC04BHT-I/ST-ND; Supplier 2: Mouser; Supplier Part Number 2: 579-24LC04BHT-I/ST; Mounting Technology: Surface Mount; Code_JEDEC: MO-153; ComponentLink1Description: Manufacturer URL; ComponentLink1URL: http://www.microchip.com/; ComponentLink2Description: Datasheet; ComponentLink2URL: http://ww1.microchip.com/downloads/en/DeviceDoc/22119A.pdf; ComponentLink3Description: Package Specification; ComponentLink3URL: http://www.microchip.com/stellent/groups/techpub_sg/documents/packagingspec/en012702.pdf
footprint TSSOP-ST8_N (TSOP, 8-Leads, Body 3x4.4mm, Pitch 0.65mm, IPC Medium Density)
footprint TSSOP-ST8_L (TSOP, 8-Leads, Body 3x4.4mm, Pitch 0.65mm, IPC High Density)
footprint TSSOP-ST8_M (TSOP, 8-Leads, Body 3x4.4mm, Pitch 0.65mm, IPC Low Density)
pins: 1 A0 (in), 2 A1 (in), 3 A2 (in), 4 VSS (power), 5 SDA (io), 6 SCL (in), 7 WP (in), 8 VCC (power)

## 24LC04BT-E/MC
designator U?
4Kbit, 400kHz, 2.5V, I2C Serial EEPROM, 8-Pin DFN, Extended Temperature, Tape and Reel; Manufacturer: Microchip; PartNumber: 24LC04BT-E/MC; DatasheetVersion: revK, Mar-2009; PackageVersion: revBB, Aug-2009; PackageReference: DFN-MC8; PackageDescription: 8-Lead Plastic Dual Flat, No Lead Package (MC) - 2x3x0.9mm Body [DFN]; Mounting Technology: Surface Mount; ComponentLink1Description: Manufacturer URL; ComponentLink1URL: http://www.microchip.com/; ComponentLink2Description: Datasheet; ComponentLink2URL: http://ww1.microchip.com/downloads/en/DeviceDoc/21708K.pdf; ComponentLink3Description: Package Specification; ComponentLink3URL: http://www.microchip.com/stellent/groups/techpub_sg/documents/packagingspec/en012702.pdf
footprint DFN-MC8 (SON, 8-Leads, Body 2x3mm, Pitch 0.5mm, Microchip Recommended)
pins: 1 A0 (in), 2 A1 (in), 3 A2 (in), 4 VSS (power), 5 SDA (io), 6 SCL (in), 7 WP (in), 8 VCC (power), 9 DAP (power)

## 24LC04BT-E/MNY
designator U?
4Kbit, 400kHz, 2.5V, I2C Serial EEPROM, 8-Pin TDFN (NiPdAu finish), Extended Temperature, Tape and Reel; Manufacturer: Microchip; PartNumber: 24LC04BT-E/MNY; DatasheetVersion: revK, Mar-2009; PackageVersion: revBB, Aug-2009; PackageReference: TDFN-MN8; PackageDescription: 8-Lead Plastic Dual Flat, No Lead Package (MN) - 2x3x0.75mm Body [TDFN]; Supplier 1: Digi-Key; Supplier Part Number 1: 24LC04BT-E/MNY-ND; Supplier 2: Newark; Supplier Part Number 2: 98M5303; Supplier 3: Mouser; Supplier Part Number 3: 579-24LC04BT-E/MNY; Mounting Technology: Surface Mount; ComponentLink1Description: Manufacturer URL; ComponentLink1URL: http://www.microchip.com/; ComponentLink2Description: Datasheet; ComponentLink2URL: http://ww1.microchip.com/downloads/en/DeviceDoc/21708K.pdf; ComponentLink3Description: Package Specification; ComponentLink3URL: http://www.microchip.com/stellent/groups/techpub_sg/documents/packagingspec/en012702.pdf
footprint TDFN-MN8 (SON, 8-Leads, Body 2x3mm, Pitch 0.5mm, Microchip Recommended)
pins: 1 A0 (in), 2 A1 (in), 3 A2 (in), 4 VSS (power), 5 SDA (io), 6 SCL (in), 7 WP (in), 8 VCC (power), 9 DAP (power)